# EAGLE library part TRIPOINT (library tripoint)
UWB Ranging Module
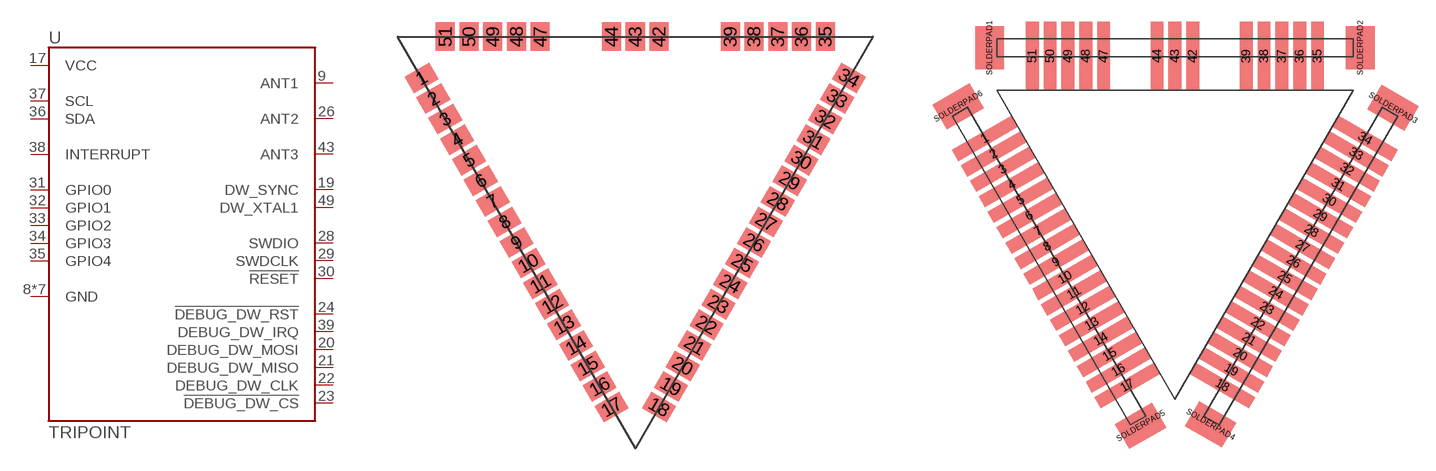
[diagram p0: symbol with the pads of TRIPOINT; footprints TRIPOINT, TRIPOINT-BREAKOUT]

Designator prefix U

## TRIPOINT-A  [TRIPOINT]
8  GND
9  ANT1
10  GND
17  VCC
18  GND
19  DW_SYNC
20  DEBUG_DW_MOSI
21  DEBUG_DW_MISO
22  DEBUG_DW_CLK
23  !DEBUG_DW_CS
24  !DEBUG_DW_RST
25  GND
26  ANT2
27  GND
28  SWDIO
29  SWDCLK
30  !RESET
31  GPIO0
32  GPIO1
33  GPIO2
34  GPIO3
35  GPIO4
36  SDA
37  SCL
38  INTERRUPT
39  DEBUG_DW_IRQ
42  GND
43  ANT3
44  GND
49  DW_XTAL1

## TRIPOINT-BREAKOUT  [TRIPOINT-BREAKOUT]
Pads as for TRIPOINT

## Footprint TRIPOINT (pad centres in mm)
smd 1.27 x 1.905 rotated 120: 1 -14.287,6.417; 2 -13.494,5.042; 3 -12.7,3.667; 4 -11.906,2.292; 5 -11.113,0.917; 6 -10.319,-0.458; 7 -9.525,-1.833; 8 -8.731,-3.208; 9 -7.938,-4.583; 10 -7.144,-5.958; 11 -6.35,-7.332; 12 -5.556,-8.707; 13 -4.763,-10.082; 14 -3.969,-11.457; 15 -3.175,-12.832; 16 -2.381,-14.207; 17 -1.587,-15.582
smd 1.27 x 1.905 rotated 60: 18 1.587,-15.582; 19 2.381,-14.207; 20 3.175,-12.832; 21 3.969,-11.457; 22 4.763,-10.082; 23 5.556,-8.707; 24 6.35,-7.332; 25 7.144,-5.958; 26 7.938,-4.583; 27 8.731,-3.208; 28 9.525,-1.833; 29 10.319,-0.458; 30 11.113,0.917; 31 11.906,2.292; 32 12.7,3.667; 33 13.494,5.042; 34 14.287,6.417
smd 1.27 x 1.905: 35 12.7,9.171; 36 11.113,9.171; 37 9.525,9.171; 38 7.938,9.171; 39 6.35,9.171; 42 1.587,9.171; 43 0,9.171; 44 -1.587,9.171; 47 -6.35,9.171; 48 -7.938,9.171; 49 -9.525,9.171; 50 -11.113,9.171; 51 -12.7,9.171

## Footprint TRIPOINT-BREAKOUT (pad centres in mm)
smd 1.143 x 6.096 rotated 120: 1 -16.929,4.89; 2 -16.135,3.515; 3 -15.342,2.14; 4 -14.548,0.765; 5 -13.754,-0.61; 6 -12.96,-1.985; 7 -12.167,-3.359; 8 -11.373,-4.734; 9 -10.579,-6.109; 10 -9.785,-7.484; 11 -8.992,-8.859; 12 -8.198,-10.234; 13 -7.404,-11.609; 14 -6.61,-12.984; 15 -5.817,-14.359; 16 -5.023,-15.734; 17 -4.229,-17.108
smd 1.143 x 6.096 rotated 60: 18 4.229,-17.108; 19 5.023,-15.734; 20 5.817,-14.359; 21 6.61,-12.984; 22 7.404,-11.609; 23 8.198,-10.234; 24 8.992,-8.859; 25 9.785,-7.484; 26 10.579,-6.109; 27 11.373,-4.734; 28 12.167,-3.359; 29 12.96,-1.985; 30 13.754,-0.61; 31 14.548,0.765; 32 15.342,2.14; 33 16.135,3.515; 34 16.929,4.89
smd 1.143 x 6.096: 35 12.7,12.222; 36 11.113,12.222; 37 9.525,12.222; 38 7.938,12.222; 39 6.35,12.222; 42 1.587,12.222; 43 0,12.222; 44 -1.587,12.222; 47 -6.35,12.222; 48 -7.938,12.222; 49 -9.525,12.222; 50 -11.113,12.222; 51 -12.7,12.222
smd 2.54 x 3.81: SOLDERPAD1 -16.51,12.959; SOLDERPAD2 16.51,12.959
smd 2.54 x 3.81 rotated 60: SOLDERPAD3 19.426,7.62; SOLDERPAD4 3.17,-20.574
smd 2.54 x 3.81 rotated 120: SOLDERPAD5 -3.048,-20.706; SOLDERPAD6 -19.304,7.742